# Altium schematic symbol library EtherIOv2.SchLib: 21 symbols
Pins are listed as number, name and electrical type; pins without a type are passive.

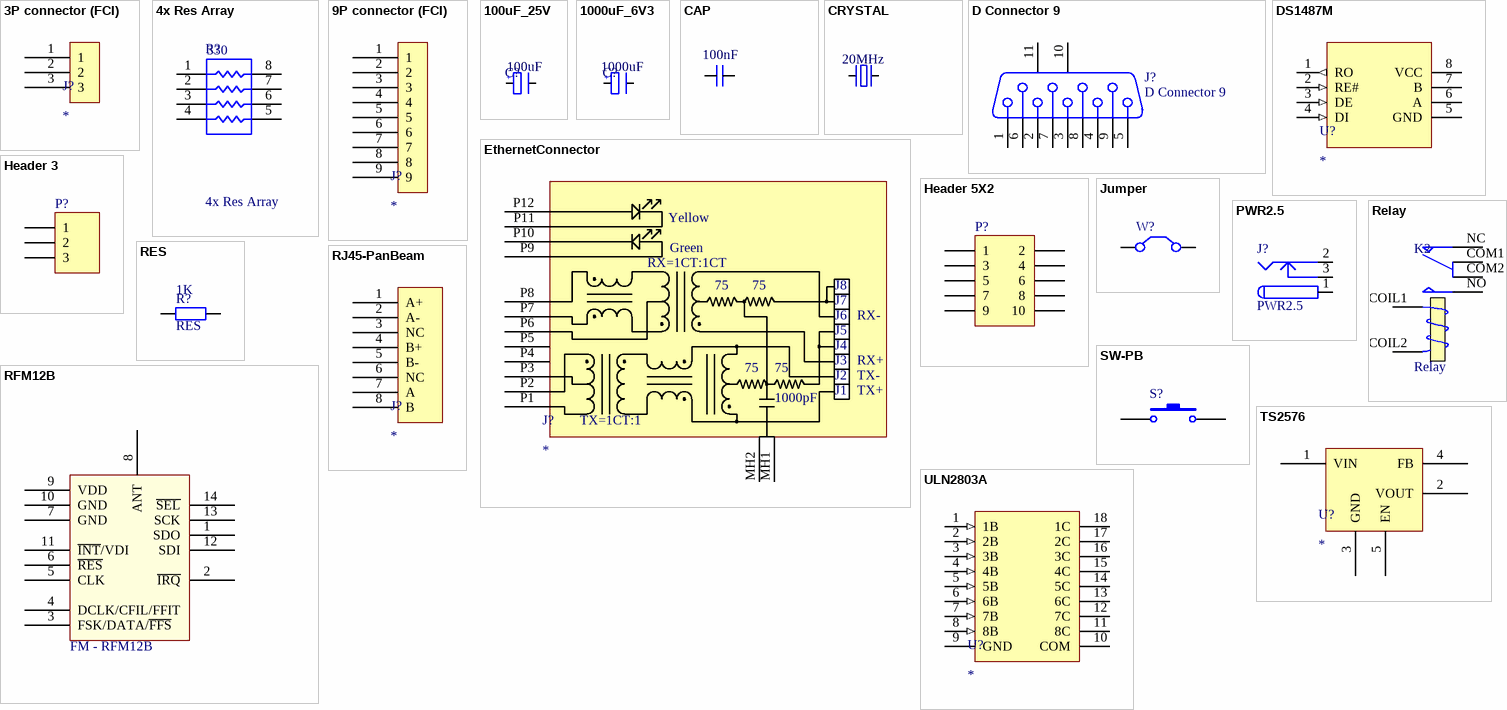
[diagram p0: symbols 3P connector (FCI) to ULN2803A]

## 3P connector (FCI)
designator J?
footprint FCI - D03 (3.81 mm pitch 3P connector)
pins: 1, 2, 3

## 4x Res Array
designator R?  value 330
Isolated Resistor Network; Published: 24-Mar-1999; LatestRevisionDate: 29-May-2009; LatestRevisionNote: IPC-7351 Footprint Added.; PackageReference: SO-16; Publisher: Altium Limited; PackageDescription: 16-Pin Small Outline Integrated Circuit 1.27 mm Pitch; Code_JEDEC: MS-012-AC; Code_IPC: SOIC127P600-16
footprint 1206 4xRES ARRAY (Chip Resistor, 2-Leads, Body 3,2x1,6mm, IPC Medium Density)
pins: 1, 2, 3, 4, 5, 6, 7, 8

## 9P connector (FCI)
designator J?
footprint FCI - D09 (3.81 mm pitch 9P connector)
pins: 1, 2, 3, 4, 5, 6, 7, 8, 9

## 100uF_25V
designator C?  value 100uF
SMD Electrolit Capacitor
footprint Electrolit Cap F80
pins: 1 B, 2 A
text: +

## 1000uF_6V3
designator C?  value 1000uF
SMD Electrolit Capacitor
footprint Electrolit Cap J10
pins: 1 B, 2 A
text: +

## CAP
designator C?  value 100nF
Capacitor
footprint 0603 CAP (Chip Capacitor, 2-Leads, Body 1,6x0,8mm, IPC Medium Density)
footprint 0805 CAP (Chip Capacitor, 2-Leads, Body 2,0x1,3mm, IPC Medium Density)
footprint 1206 CAP (Chip Capacitor, 2-Leads, Body 3,2x1,6mm, IPC Medium Density)
pins: 1 A, 2 B

## CRYSTAL
designator X?  value 20MHz
Crystal
footprint CRYSTAL_mini (Furatszerelt D-3.1x8.2)
footprint CRYSTAL_SMD
footprint CRYSTAL_LOW
pins: 1 A, 2 B

## D Connector 9
designator J?
9 Position, Right Angle; PackageDocument: O; Positions: 9; Gender: Receptacle; Published: 15-Jun-2001; LatestRevisionDate: 17-Jul-2002; LatestRevisionNote: Re-released for DXP Platform.; DatasheetDocument: 1-Sep-1999; PackageReference: 788750; Publisher: Altium Limited; Orientation: Right Angle
footprint DSUB1.385-2H9 PLUG (Connector; D Subminiature; Plug; 9 Position; Right Angle; Pitch 1.385 mm)
signal-integrity model Connector
footprint DSUB1.385-2H9 RECEPTABLE (Connector; D Subminiature; Receptable; 9 Position; Right Angle; Pitch 1.385 mm)
pins: 1, 2, 3, 4, 5, 6, 7, 8, 9, 10 MH1, 11 MH2

## DS1487M
designator U?
SMD 5V RS485 Trasciever
footprint SOIC127P600-8BL (SOIC, 8-Leads, Body 4.9x3.9mm, Pitch 1.27mm, IPC High Density)
footprint SOIC-8 (SOIC, 8-Leads, Body 4.9x3.9mm, Pitch 1.27mm, IPC High Density)
pins: 1 RO (out), 2 RE# (in), 3 DE (in), 4 DI (in), 5 GND (power), 6 A, 7 B, 8 VCC (power)

## EthernetConnector
designator J?
footprint LU1T516-43 (Connector; PCB Jack, Thru-Hole; 1-Port, 8 Positions, 8 Loaded; Shielded without Lightpipes; Right Angle)
pins: MH1 SHIELD, MH2 SHIELD, P1, P2, P3, P4, P5, P6, P7, P8, P9, P10, P11, P12
text: Yellow; Green; RX=1CT:1CT; 75; J8; J7; J6; RX-; J5; J4; J3; RX+; J2; TX-; J1; TX+; 1000pF; TX=1CT:1

## Header 3
designator P?
Header, 3-Pin; LatestRevisionDate: 17-Jul-2002; LatestRevisionNote: Re-released for DXP Platform.; Publisher: Altium Limited
signal-integrity model Connector
footprint HDR1X3 - PWR (Connector; Header; 3 Position)
pins: 1, 2, 3

## Header 5X2
designator P?
Header, 5-Pin, Dual row; LatestRevisionDate: 17-Jul-2002; LatestRevisionNote: Re-released for DXP Platform.; Publisher: Altium Limited
footprint HDR2X5 (Connector; Header; 5x2 Position)
signal-integrity model Connector
footprint IDC2.54-V10D (Connector; IDC, Low Profile Male Header, Thru-Hole; 10 Position; Vertical; Pitch 2.54 mm; Body 20.32 x 9.2 x 9.45 mm (LxWxH))
pins: 1, 2, 3, 4, 5, 6, 7, 8, 9, 10

## Jumper
designator W?
Jumper Wire; Published: 24-Mar-1999; LatestRevisionDate: 17-Jul-2002; LatestRevisionNote: Re-released for DXP Platform.; PackageReference: RAD-0.2; Publisher: Altium Limited
footprint Jumper (Jumper, 2.54 pitch)
pins: 1 C1, 2 C2

## PWR2.5
designator J?
Low Voltage Power Supply Connector; Published: 17-Dec-2003; DatasheetDocument: 09-May-2002; Publisher: Altium Limited; ComponentLink1Description: Manufacturer Link; ComponentLink1URL: http://domino.kycon.com/internet/Products.html
footprint KLD-0202 (DC Power Jack, 2.5mm, KLD Series, PCB Mount)
signal-integrity model Connector
pins: 1, 2, 3

## Relay
designator K2
SPDT Relay; Published: 8-Jun-2000; LatestRevisionDate: 17-Jul-2002; LatestRevisionNote: Re-released for DXP Platform.; PackageReference: MODULE5B; Publisher: Altium Limited
footprint RSY-12
pins: COIL1, COIL2, COM1 COM, COM2 COM, NC, NO

## RES
designator R?  value 1K
Resistor; Published: 8-Jun-2000; LatestRevisionDate: 17-Jul-2002; LatestRevisionNote: Re-released for DXP Platform.; PackageReference: AXIAL-0.4; Publisher: Altium Limited
footprint 0805 RES (Chip Resistor, 2-Leads, Body 2,0x1,3mm, IPC Medium Density)
footprint 0603 RES (Chip Resistor, 2-Leads, Body 1,6x0,8mm, IPC Medium Density)
pins: 1, 2

## RFM12B
designator U?
FM Module
footprint RFM12B-S1
pins: 1 SDO, 2 ~{IRQ}, 3 FSK/DATA/~{FFS}, 4 DCLK/CFIL/FFIT, 5 CLK, 6 ~{RES}, 7 GND, 8 ANT, 9 VDD, 10 GND, 11 ~{INT}/VDI, 12 SDI, 13 SCK, 14 ~{SEL}
text: FM - RFM12B

## RJ45-PanBeam
designator J?
PanBeam - RS485 + 2xAudio
footprint JACK1.27-2H8B (Connector; PCB Jack, Thru-Hole; 1-Port, 8 Positions, 8 Loaded; Unshielded without Lightpipes; Right Angle)
pins: 1 A+, 2 A-, 3 NC, 4 B+, 5 B-, 6 NC, 7 A, 8 B

## SW-PB
designator S?
Switch; Published: 24-Mar-1999; LatestRevisionDate: 17-Jul-2002; LatestRevisionNote: Re-released for DXP Platform.; PackageReference: SPST-2; Publisher: Altium Limited
footprint SPST-2 (Switch; 2 Leads)
pins: 1, 2

## TS2576
designator U?
Step Down DC-DC Converter
footprint TO-263-5L (D2-PAK, 6-Pads, Body 8,3x10,2mm (max), IPC Medium Density)
pins: 1 VIN (power), 2 VOUT, 3 GND (power), 4 FB, 5 EN

## ULN2803A
designator U?
8xDarlington Driver
footprint SOIC127P1030X265-18N (SOIC, 18-Leads, Body 11,8x7,6mm (max), Pitch 1,27mm, IPC Medium Density)
pins: 1 1B (in), 2 2B (in), 3 3B (in), 4 4B (in), 5 5B (in), 6 6B (in), 7 7B (in), 8 8B (in), 9 GND (power), 10 COM (power), 11 8C (oc), 12 7C (oc), 13 6C (oc), 14 5C (oc), 15 4C (oc), 16 3C (oc), 17 2C (oc), 18 1C (oc)